# Altium footprint library Connector_PinHeader_1.00mm.PcbLib: 278 footprints (part 10 of 18)
Each footprint in its own frame and in the unit in brackets; x right, y up, seen from the top. Pads: shape width x height; smd on the part's side, far side on the other; paste and mask are expansions set on the pad; w line width, h text height; cw(c..) or ccw(c..) is an arc to the next point about the centre after c.
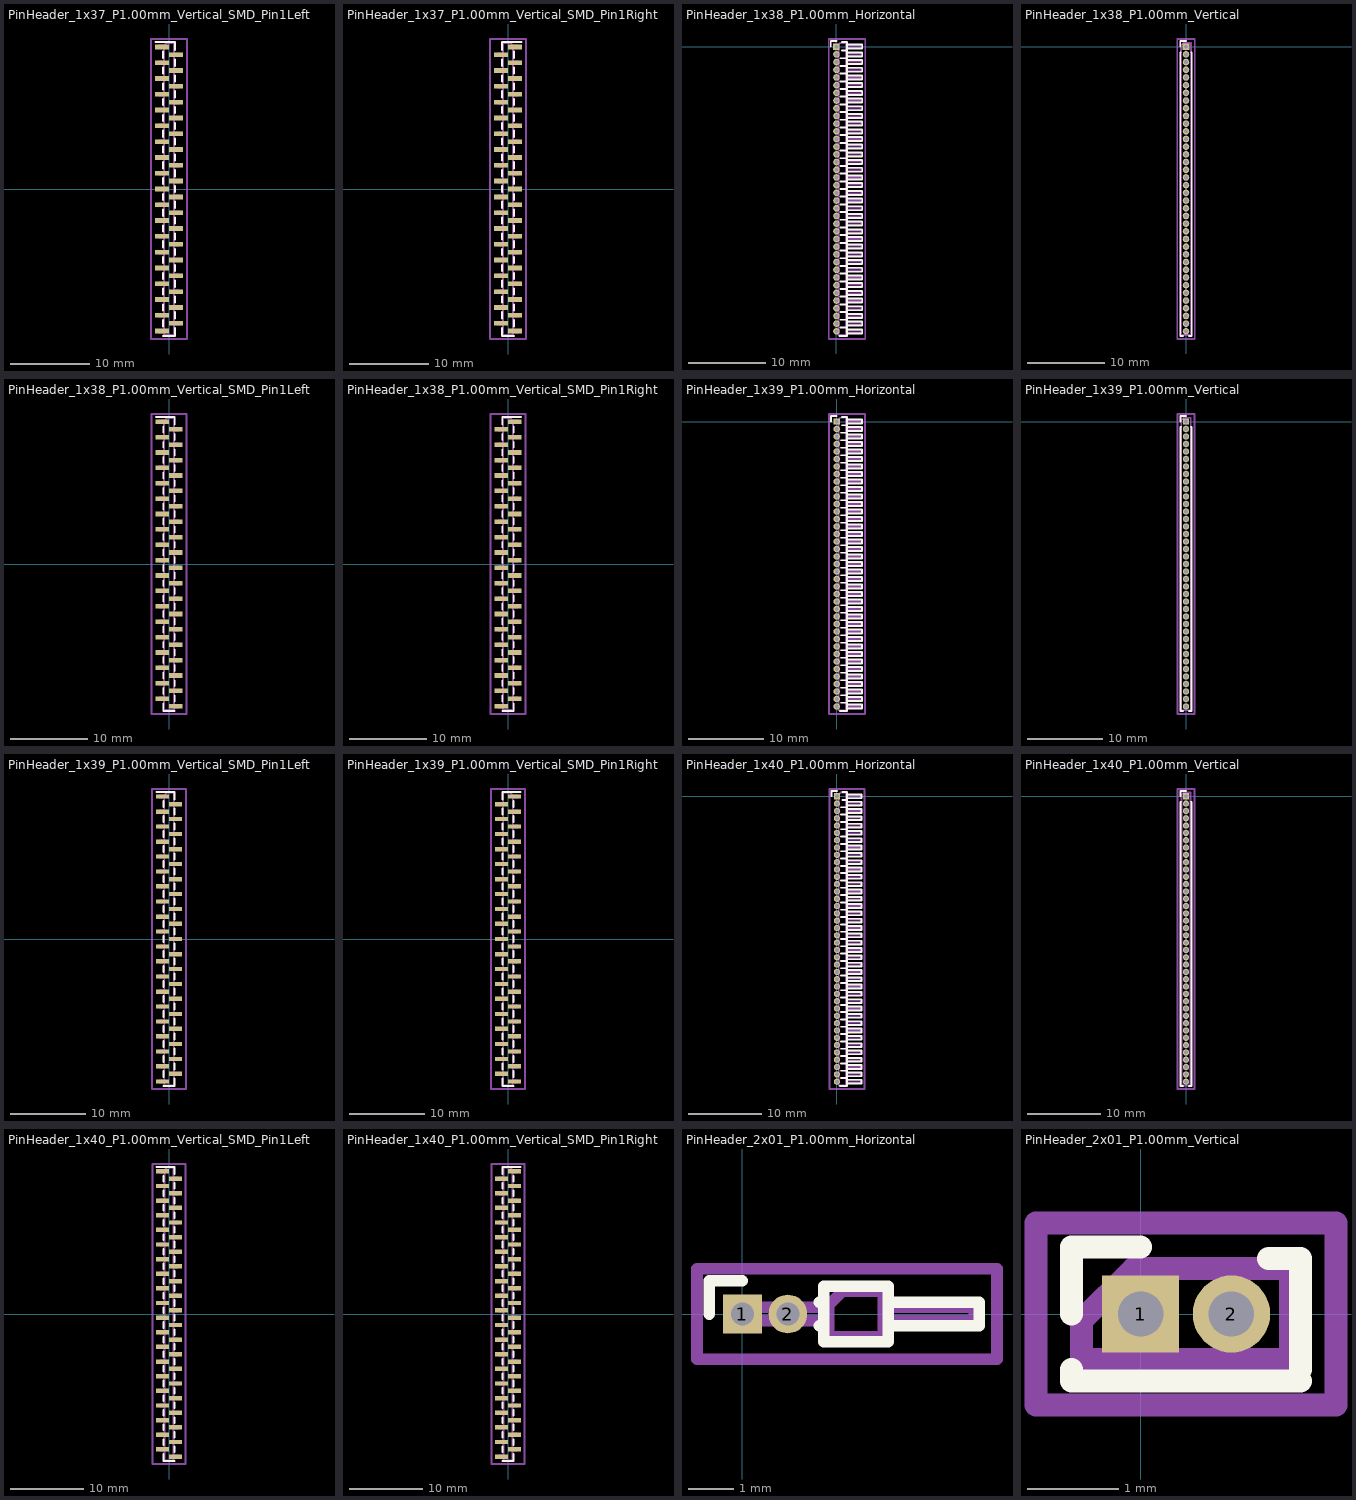
[diagram p9: the footprints below, top view; thin cyan lines are the x and y axes]

## PinHeader_1x37_P1.00mm_Vertical_SMD_Pin1Left [mm]
pads (37):
  rect 1.75x0.6 smd: 1(-0.875,18) 2(0.875,17) 3(-0.875,16) 4(0.875,15) 5(-0.875,14) 6(0.875,13) 7(-0.875,12) 8(0.875,11) 9(-0.875,10) 10(0.875,9) 11(-0.875,8) 12(0.875,7) 13(-0.875,6) 14(0.875,5) 15(-0.875,4) 16(0.875,3) 17(-0.875,2) 18(0.875,1) 19(-0.875,0) 20(0.875,-1) 21(-0.875,-2) 22(0.875,-3) 23(-0.875,-4) 24(0.875,-5) 25(-0.875,-6) 26(0.875,-7) 27(-0.875,-8) 28(0.875,-9) 29(-0.875,-10) 30(0.875,-11) 31(-0.875,-12) 32(0.875,-13) 33(-0.875,-14) 34(0.875,-15) 35(-0.875,-16) 36(0.875,-17) 37(-0.875,-18)
F.SilkS:
  lines w0.254: -1.69,18.61 -0.745,18.61 0.745,18.61 0.745,17.61 ; -0.745,-18.61 0.745,-18.61 0.745,-17.61 ; -0.745,-17.39 -0.745,-16.61 ; -0.745,-15.39 -0.745,-14.61 ; -0.745,-13.39 -0.745,-12.61 ; -0.745,-11.39 -0.745,-10.61 ; -0.745,-9.39 -0.745,-8.61 ; -0.745,-7.39 -0.745,-6.61 ; -0.745,-5.39 -0.745,-4.61 ; -0.745,-3.39 -0.745,-2.61 ; -0.745,-1.39 -0.745,-0.61 ; -0.745,0.61 -0.745,1.39 ; -0.745,2.61 -0.745,3.39 ; -0.745,4.61 -0.745,5.39 ; -0.745,6.61 -0.745,7.39 ; -0.745,8.61 -0.745,9.39 ; -0.745,10.61 -0.745,11.39 ; -0.745,12.61 -0.745,13.39 ; -0.745,14.61 -0.745,15.39 ; -0.745,16.61 -0.745,17.39 ; 0.745,-16.39 0.745,-15.61 ; 0.745,-14.39 0.745,-13.61 ; 0.745,-12.39 0.745,-11.61 ; 0.745,-10.39 0.745,-9.61 ; 0.745,-8.39 0.745,-7.61 ; 0.745,-6.39 0.745,-5.61 ; 0.745,-4.39 0.745,-3.61 ; 0.745,-2.39 0.745,-1.61 ; 0.745,-0.39 0.745,0.39 ; 0.745,1.61 0.745,2.39 ; 0.745,3.61 0.745,4.39 ; 0.745,5.61 0.745,6.39 ; 0.745,7.61 0.745,8.39 ; 0.745,9.61 0.745,10.39 ; 0.745,11.61 0.745,12.39 ; 0.745,13.61 0.745,14.39 ; 0.745,15.61 0.745,16.39
Top Assembly:
  lines w0.254: -0.635,-18.15 -1.25,-18.15 -1.25,-17.85 -0.635,-17.85 ; -0.635,-16.15 -1.25,-16.15 -1.25,-15.85 -0.635,-15.85 ; -0.635,-14.15 -1.25,-14.15 -1.25,-13.85 -0.635,-13.85 ; -0.635,-12.15 -1.25,-12.15 -1.25,-11.85 -0.635,-11.85 ; -0.635,-10.15 -1.25,-10.15 -1.25,-9.85 -0.635,-9.85 ; -0.635,-8.15 -1.25,-8.15 -1.25,-7.85 -0.635,-7.85 ; -0.635,-6.15 -1.25,-6.15 -1.25,-5.85 -0.635,-5.85 ; -0.635,-4.15 -1.25,-4.15 -1.25,-3.85 -0.635,-3.85 ; -0.635,-2.15 -1.25,-2.15 -1.25,-1.85 -0.635,-1.85 ; -0.635,-0.15 -1.25,-0.15 -1.25,0.15 -0.635,0.15 ; -0.635,1.85 -1.25,1.85 -1.25,2.15 -0.635,2.15 ; -0.635,3.85 -1.25,3.85 -1.25,4.15 -0.635,4.15 ; -0.635,5.85 -1.25,5.85 -1.25,6.15 -0.635,6.15 ; -0.635,7.85 -1.25,7.85 -1.25,8.15 -0.635,8.15 ; -0.635,9.85 -1.25,9.85 -1.25,10.15 -0.635,10.15 ; -0.635,11.85 -1.25,11.85 -1.25,12.15 -0.635,12.15 ; -0.635,13.85 -1.25,13.85 -1.25,14.15 -0.635,14.15 ; -0.635,15.85 -1.25,15.85 -1.25,16.15 -0.635,16.15 ; -0.635,17.85 -1.25,17.85 -1.25,18.15 -0.635,18.15 ; 0.635,-17.15 1.25,-17.15 1.25,-16.85 0.635,-16.85 ; 0.635,-15.15 1.25,-15.15 1.25,-14.85 0.635,-14.85 ; 0.635,-13.15 1.25,-13.15 1.25,-12.85 0.635,-12.85 ; 0.635,-11.15 1.25,-11.15 1.25,-10.85 0.635,-10.85 ; 0.635,-9.15 1.25,-9.15 1.25,-8.85 0.635,-8.85 ; 0.635,-7.15 1.25,-7.15 1.25,-6.85 0.635,-6.85 ; 0.635,-5.15 1.25,-5.15 1.25,-4.85 0.635,-4.85 ; 0.635,-3.15 1.25,-3.15 1.25,-2.85 0.635,-2.85 ; 0.635,-1.15 1.25,-1.15 1.25,-0.85 0.635,-0.85 ; 0.635,0.85 1.25,0.85 1.25,1.15 0.635,1.15 ; 0.635,2.85 1.25,2.85 1.25,3.15 0.635,3.15 ; 0.635,4.85 1.25,4.85 1.25,5.15 0.635,5.15 ; 0.635,6.85 1.25,6.85 1.25,7.15 0.635,7.15 ; 0.635,8.85 1.25,8.85 1.25,9.15 0.635,9.15 ; 0.635,10.85 1.25,10.85 1.25,11.15 0.635,11.15 ; 0.635,12.85 1.25,12.85 1.25,13.15 0.635,13.15 ; 0.635,14.85 1.25,14.85 1.25,15.15 0.635,15.15 ; 0.635,16.85 1.25,16.85 1.25,17.15 0.635,17.15 ; -0.635,18.15 -0.635,-18.5 0.635,-18.5 0.635,18.5 -0.285,18.5 -0.635,18.15
  text "'.Designator'" at 0.84,-4.047 h1
Top Courtyard:
  lines w0.254: -2.25,-19 2.25,-19 2.25,19 -2.25,19 -2.25,-19
Top Designator:
  text ".Designator" at -7.618,-0.508 h1.52

## PinHeader_1x37_P1.00mm_Vertical_SMD_Pin1Right [mm]
pads (37):
  rect 1.75x0.6 smd: 1(0.875,18) 2(-0.875,17) 3(0.875,16) 4(-0.875,15) 5(0.875,14) 6(-0.875,13) 7(0.875,12) 8(-0.875,11) 9(0.875,10) 10(-0.875,9) 11(0.875,8) 12(-0.875,7) 13(0.875,6) 14(-0.875,5) 15(0.875,4) 16(-0.875,3) 17(0.875,2) 18(-0.875,1) 19(0.875,0) 20(-0.875,-1) 21(0.875,-2) 22(-0.875,-3) 23(0.875,-4) 24(-0.875,-5) 25(0.875,-6) 26(-0.875,-7) 27(0.875,-8) 28(-0.875,-9) 29(0.875,-10) 30(-0.875,-11) 31(0.875,-12) 32(-0.875,-13) 33(0.875,-14) 34(-0.875,-15) 35(0.875,-16) 36(-0.875,-17) 37(0.875,-18)
F.SilkS:
  lines w0.254: -0.745,-17.61 -0.745,-18.61 0.745,-18.61 ; -0.745,-16.39 -0.745,-15.61 ; -0.745,-14.39 -0.745,-13.61 ; -0.745,-12.39 -0.745,-11.61 ; -0.745,-10.39 -0.745,-9.61 ; -0.745,-8.39 -0.745,-7.61 ; -0.745,-6.39 -0.745,-5.61 ; -0.745,-4.39 -0.745,-3.61 ; -0.745,-2.39 -0.745,-1.61 ; -0.745,-0.39 -0.745,0.39 ; -0.745,1.61 -0.745,2.39 ; -0.745,3.61 -0.745,4.39 ; -0.745,5.61 -0.745,6.39 ; -0.745,7.61 -0.745,8.39 ; -0.745,9.61 -0.745,10.39 ; -0.745,11.61 -0.745,12.39 ; -0.745,13.61 -0.745,14.39 ; -0.745,15.61 -0.745,16.39 ; -0.745,18.39 -0.745,17.61 -0.745,18.61 0.745,18.61 1.69,18.61 ; 0.745,-17.39 0.745,-16.61 ; 0.745,-15.39 0.745,-14.61 ; 0.745,-13.39 0.745,-12.61 ; 0.745,-11.39 0.745,-10.61 ; 0.745,-9.39 0.745,-8.61 ; 0.745,-7.39 0.745,-6.61 ; 0.745,-5.39 0.745,-4.61 ; 0.745,-3.39 0.745,-2.61 ; 0.745,-1.39 0.745,-0.61 ; 0.745,0.61 0.745,1.39 ; 0.745,2.61 0.745,3.39 ; 0.745,4.61 0.745,5.39 ; 0.745,6.61 0.745,7.39 ; 0.745,8.61 0.745,9.39 ; 0.745,10.61 0.745,11.39 ; 0.745,12.61 0.745,13.39 ; 0.745,14.61 0.745,15.39 ; 0.745,16.61 0.745,17.39
Top Assembly:
  lines w0.254: -0.635,-17.15 -1.25,-17.15 -1.25,-16.85 -0.635,-16.85 ; -0.635,-15.15 -1.25,-15.15 -1.25,-14.85 -0.635,-14.85 ; -0.635,-13.15 -1.25,-13.15 -1.25,-12.85 -0.635,-12.85 ; -0.635,-11.15 -1.25,-11.15 -1.25,-10.85 -0.635,-10.85 ; -0.635,-9.15 -1.25,-9.15 -1.25,-8.85 -0.635,-8.85 ; -0.635,-7.15 -1.25,-7.15 -1.25,-6.85 -0.635,-6.85 ; -0.635,-5.15 -1.25,-5.15 -1.25,-4.85 -0.635,-4.85 ; -0.635,-3.15 -1.25,-3.15 -1.25,-2.85 -0.635,-2.85 ; -0.635,-1.15 -1.25,-1.15 -1.25,-0.85 -0.635,-0.85 ; -0.635,0.85 -1.25,0.85 -1.25,1.15 -0.635,1.15 ; -0.635,2.85 -1.25,2.85 -1.25,3.15 -0.635,3.15 ; -0.635,4.85 -1.25,4.85 -1.25,5.15 -0.635,5.15 ; -0.635,6.85 -1.25,6.85 -1.25,7.15 -0.635,7.15 ; -0.635,8.85 -1.25,8.85 -1.25,9.15 -0.635,9.15 ; -0.635,10.85 -1.25,10.85 -1.25,11.15 -0.635,11.15 ; -0.635,12.85 -1.25,12.85 -1.25,13.15 -0.635,13.15 ; -0.635,14.85 -1.25,14.85 -1.25,15.15 -0.635,15.15 ; -0.635,16.85 -1.25,16.85 -1.25,17.15 -0.635,17.15 ; 0.635,-18.15 1.25,-18.15 1.25,-17.85 0.635,-17.85 ; 0.635,-16.15 1.25,-16.15 1.25,-15.85 0.635,-15.85 ; 0.635,-14.15 1.25,-14.15 1.25,-13.85 0.635,-13.85 ; 0.635,-12.15 1.25,-12.15 1.25,-11.85 0.635,-11.85 ; 0.635,-10.15 1.25,-10.15 1.25,-9.85 0.635,-9.85 ; 0.635,-8.15 1.25,-8.15 1.25,-7.85 0.635,-7.85 ; 0.635,-6.15 1.25,-6.15 1.25,-5.85 0.635,-5.85 ; 0.635,-4.15 1.25,-4.15 1.25,-3.85 0.635,-3.85 ; 0.635,-2.15 1.25,-2.15 1.25,-1.85 0.635,-1.85 ; 0.635,-0.15 1.25,-0.15 1.25,0.15 0.635,0.15 ; 0.635,1.85 1.25,1.85 1.25,2.15 0.635,2.15 ; 0.635,3.85 1.25,3.85 1.25,4.15 0.635,4.15 ; 0.635,5.85 1.25,5.85 1.25,6.15 0.635,6.15 ; 0.635,7.85 1.25,7.85 1.25,8.15 0.635,8.15 ; 0.635,9.85 1.25,9.85 1.25,10.15 0.635,10.15 ; 0.635,11.85 1.25,11.85 1.25,12.15 0.635,12.15 ; 0.635,13.85 1.25,13.85 1.25,14.15 0.635,14.15 ; 0.635,15.85 1.25,15.85 1.25,16.15 0.635,16.15 ; 0.635,17.85 1.25,17.85 1.25,18.15 0.635,18.15 ; 0.635,18.15 0.635,-18.5 -0.635,-18.5 -0.635,18.5 0.285,18.5 0.635,18.15
  text "'.Designator'" at 0.84,-4.047 h1
Top Courtyard:
  lines w0.254: -2.25,-19 2.25,-19 2.25,19 -2.25,19 -2.25,-19
Top Designator:
  text ".Designator" at -7.618,-0.508 h1.52

## PinHeader_1x38_P1.00mm_Horizontal [mm]
pads (38):
  rect 0.85x0.85 hole 0.5: 1(0,0)
  round 0.85 hole 0.5: 2(0,-1) 3(0,-2) 4(0,-3) 5(0,-4) 6(0,-5) 7(0,-6) 8(0,-7) 9(0,-8) 10(0,-9) 11(0,-10) 12(0,-11) 13(0,-12) 14(0,-13) 15(0,-14) 16(0,-15) 17(0,-16) 18(0,-17) 19(0,-18) 20(0,-19) 21(0,-20) 22(0,-21) 23(0,-22) 24(0,-23) 25(0,-24) 26(0,-25) 27(0,-26) 28(0,-27) 29(0,-28) 30(0,-29) 31(0,-30) 32(0,-31) 33(0,-32) 34(0,-33) 35(0,-34) 36(0,-35) 37(0,-36) 38(0,-37)
F.SilkS:
  drawing of 157 lines, arcs and shapes, not listed
Top Assembly:
  drawing of 233 lines, arcs and shapes, not listed
  text "'.Designator'" at 1.254,-20.928 h0.6
Top Courtyard:
  lines w0.254: -1,-38 3.75,-38 3.75,1 -1,1 -1,-38
Top Designator:
  text ".Designator" at -6.243,-19.008 h1.52

## PinHeader_1x38_P1.00mm_Vertical [mm]
pads (38):
  rect 0.85x0.85 hole 0.5: 1(0,0)
  round 0.85 hole 0.5: 2(0,-1) 3(0,-2) 4(0,-3) 5(0,-4) 6(0,-5) 7(0,-6) 8(0,-7) 9(0,-8) 10(0,-9) 11(0,-10) 12(0,-11) 13(0,-12) 14(0,-13) 15(0,-14) 16(0,-15) 17(0,-16) 18(0,-17) 19(0,-18) 20(0,-19) 21(0,-20) 22(0,-21) 23(0,-22) 24(0,-23) 25(0,-24) 26(0,-25) 27(0,-26) 28(0,-27) 29(0,-28) 30(0,-29) 31(0,-30) 32(0,-31) 33(0,-32) 34(0,-33) 35(0,-34) 36(0,-35) 37(0,-36) 38(0,-37)
F.SilkS:
  lines w0.254: -0.745,0 -0.745,0.735 0,0.735 ; -0.686,-0.735 -0.745,-0.735 -0.745,-37.61 -0.41,-37.61 ; 0.41,-37.61 0.745,-37.61 0.745,-0.735 0.686,-0.735
Top Assembly:
  lines w0.254: -0.635,-37.5 0.635,-37.5 0.635,0.5 -0.318,0.5 -0.635,0.182 -0.635,-37.5
  text "'.Designator'" at 0.639,-21.576 h0.76
Top Courtyard:
  lines w0.254: -1.14,-38 1.14,-38 1.14,1 -1.14,1 -1.14,-38
Top Designator:
  text ".Designator" at -7.618,-19.008 h1.52

## PinHeader_1x38_P1.00mm_Vertical_SMD_Pin1Left [mm]
pads (38):
  rect 1.75x0.6 smd: 1(-0.875,18.5) 2(0.875,17.5) 3(-0.875,16.5) 4(0.875,15.5) 5(-0.875,14.5) 6(0.875,13.5) 7(-0.875,12.5) 8(0.875,11.5) 9(-0.875,10.5) 10(0.875,9.5) 11(-0.875,8.5) 12(0.875,7.5) 13(-0.875,6.5) 14(0.875,5.5) 15(-0.875,4.5) 16(0.875,3.5) 17(-0.875,2.5) 18(0.875,1.5) 19(-0.875,0.5) 20(0.875,-0.5) 21(-0.875,-1.5) 22(0.875,-2.5) 23(-0.875,-3.5) 24(0.875,-4.5) 25(-0.875,-5.5) 26(0.875,-6.5) 27(-0.875,-7.5) 28(0.875,-8.5) 29(-0.875,-9.5) 30(0.875,-10.5) 31(-0.875,-11.5) 32(0.875,-12.5) 33(-0.875,-13.5) 34(0.875,-14.5) 35(-0.875,-15.5) 36(0.875,-16.5) 37(-0.875,-17.5) 38(0.875,-18.5)
F.SilkS:
  lines w0.254: -1.69,19.11 -0.745,19.11 0.745,19.11 0.745,18.11 ; -0.745,-18.11 -0.745,-19.11 0.745,-19.11 ; -0.745,-16.89 -0.745,-16.11 ; -0.745,-14.89 -0.745,-14.11 ; -0.745,-12.89 -0.745,-12.11 ; -0.745,-10.89 -0.745,-10.11 ; -0.745,-8.89 -0.745,-8.11 ; -0.745,-6.89 -0.745,-6.11 ; -0.745,-4.89 -0.745,-4.11 ; -0.745,-2.89 -0.745,-2.11 ; -0.745,-0.89 -0.745,-0.11 ; -0.745,1.11 -0.745,1.89 ; -0.745,3.11 -0.745,3.89 ; -0.745,5.11 -0.745,5.89 ; -0.745,7.11 -0.745,7.89 ; -0.745,9.11 -0.745,9.89 ; -0.745,11.11 -0.745,11.89 ; -0.745,13.11 -0.745,13.89 ; -0.745,15.11 -0.745,15.89 ; -0.745,17.11 -0.745,17.89 ; 0.745,-17.89 0.745,-17.11 ; 0.745,-15.89 0.745,-15.11 ; 0.745,-13.89 0.745,-13.11 ; 0.745,-11.89 0.745,-11.11 ; 0.745,-9.89 0.745,-9.11 ; 0.745,-7.89 0.745,-7.11 ; 0.745,-5.89 0.745,-5.11 ; 0.745,-3.89 0.745,-3.11 ; 0.745,-1.89 0.745,-1.11 ; 0.745,0.11 0.745,0.89 ; 0.745,2.11 0.745,2.89 ; 0.745,4.11 0.745,4.89 ; 0.745,6.11 0.745,6.89 ; 0.745,8.11 0.745,8.89 ; 0.745,10.11 0.745,10.89 ; 0.745,12.11 0.745,12.89 ; 0.745,14.11 0.745,14.89 ; 0.745,16.11 0.745,16.89
Top Assembly:
  lines w0.254: -0.635,-17.65 -1.25,-17.65 -1.25,-17.35 -0.635,-17.35 ; -0.635,-15.65 -1.25,-15.65 -1.25,-15.35 -0.635,-15.35 ; -0.635,-13.65 -1.25,-13.65 -1.25,-13.35 -0.635,-13.35 ; -0.635,-11.65 -1.25,-11.65 -1.25,-11.35 -0.635,-11.35 ; -0.635,-9.65 -1.25,-9.65 -1.25,-9.35 -0.635,-9.35 ; -0.635,-7.65 -1.25,-7.65 -1.25,-7.35 -0.635,-7.35 ; -0.635,-5.65 -1.25,-5.65 -1.25,-5.35 -0.635,-5.35 ; -0.635,-3.65 -1.25,-3.65 -1.25,-3.35 -0.635,-3.35 ; -0.635,-1.65 -1.25,-1.65 -1.25,-1.35 -0.635,-1.35 ; -0.635,0.35 -1.25,0.35 -1.25,0.65 -0.635,0.65 ; -0.635,2.35 -1.25,2.35 -1.25,2.65 -0.635,2.65 ; -0.635,4.35 -1.25,4.35 -1.25,4.65 -0.635,4.65 ; -0.635,6.35 -1.25,6.35 -1.25,6.65 -0.635,6.65 ; -0.635,8.35 -1.25,8.35 -1.25,8.65 -0.635,8.65 ; -0.635,10.35 -1.25,10.35 -1.25,10.65 -0.635,10.65 ; -0.635,12.35 -1.25,12.35 -1.25,12.65 -0.635,12.65 ; -0.635,14.35 -1.25,14.35 -1.25,14.65 -0.635,14.65 ; -0.635,16.35 -1.25,16.35 -1.25,16.65 -0.635,16.65 ; -0.635,18.35 -1.25,18.35 -1.25,18.65 -0.635,18.65 ; 0.635,-18.65 1.25,-18.65 1.25,-18.35 0.635,-18.35 ; 0.635,-16.65 1.25,-16.65 1.25,-16.35 0.635,-16.35 ; 0.635,-14.65 1.25,-14.65 1.25,-14.35 0.635,-14.35 ; 0.635,-12.65 1.25,-12.65 1.25,-12.35 0.635,-12.35 ; 0.635,-10.65 1.25,-10.65 1.25,-10.35 0.635,-10.35 ; 0.635,-8.65 1.25,-8.65 1.25,-8.35 0.635,-8.35 ; 0.635,-6.65 1.25,-6.65 1.25,-6.35 0.635,-6.35 ; 0.635,-4.65 1.25,-4.65 1.25,-4.35 0.635,-4.35 ; 0.635,-2.65 1.25,-2.65 1.25,-2.35 0.635,-2.35 ; 0.635,-0.65 1.25,-0.65 1.25,-0.35 0.635,-0.35 ; 0.635,1.35 1.25,1.35 1.25,1.65 0.635,1.65 ; 0.635,3.35 1.25,3.35 1.25,3.65 0.635,3.65 ; 0.635,5.35 1.25,5.35 1.25,5.65 0.635,5.65 ; 0.635,7.35 1.25,7.35 1.25,7.65 0.635,7.65 ; 0.635,9.35 1.25,9.35 1.25,9.65 0.635,9.65 ; 0.635,11.35 1.25,11.35 1.25,11.65 0.635,11.65 ; 0.635,13.35 1.25,13.35 1.25,13.65 0.635,13.65 ; 0.635,15.35 1.25,15.35 1.25,15.65 0.635,15.65 ; 0.635,17.35 1.25,17.35 1.25,17.65 0.635,17.65 ; -0.635,18.65 -0.635,-19 0.635,-19 0.635,19 -0.285,19 -0.635,18.65
  text "'.Designator'" at 0.84,-4.047 h1
Top Courtyard:
  lines w0.254: -2.25,-19.5 2.25,-19.5 2.25,19.5 -2.25,19.5 -2.25,-19.5
Top Designator:
  text ".Designator" at -7.618,-0.508 h1.52

## PinHeader_1x38_P1.00mm_Vertical_SMD_Pin1Right [mm]
pads (38):
  rect 1.75x0.6 smd: 1(0.875,18.5) 2(-0.875,17.5) 3(0.875,16.5) 4(-0.875,15.5) 5(0.875,14.5) 6(-0.875,13.5) 7(0.875,12.5) 8(-0.875,11.5) 9(0.875,10.5) 10(-0.875,9.5) 11(0.875,8.5) 12(-0.875,7.5) 13(0.875,6.5) 14(-0.875,5.5) 15(0.875,4.5) 16(-0.875,3.5) 17(0.875,2.5) 18(-0.875,1.5) 19(0.875,0.5) 20(-0.875,-0.5) 21(0.875,-1.5) 22(-0.875,-2.5) 23(0.875,-3.5) 24(-0.875,-4.5) 25(0.875,-5.5) 26(-0.875,-6.5) 27(0.875,-7.5) 28(-0.875,-8.5) 29(0.875,-9.5) 30(-0.875,-10.5) 31(0.875,-11.5) 32(-0.875,-12.5) 33(0.875,-13.5) 34(-0.875,-14.5) 35(0.875,-15.5) 36(-0.875,-16.5) 37(0.875,-17.5) 38(-0.875,-18.5)
F.SilkS:
  lines w0.254: -0.745,-19.11 0.745,-19.11 0.745,-18.11 ; -0.745,-17.89 -0.745,-17.11 ; -0.745,-15.89 -0.745,-15.11 ; -0.745,-13.89 -0.745,-13.11 ; -0.745,-11.89 -0.745,-11.11 ; -0.745,-9.89 -0.745,-9.11 ; -0.745,-7.89 -0.745,-7.11 ; -0.745,-5.89 -0.745,-5.11 ; -0.745,-3.89 -0.745,-3.11 ; -0.745,-1.89 -0.745,-1.11 ; -0.745,0.11 -0.745,0.89 ; -0.745,2.11 -0.745,2.89 ; -0.745,4.11 -0.745,4.89 ; -0.745,6.11 -0.745,6.89 ; -0.745,8.11 -0.745,8.89 ; -0.745,10.11 -0.745,10.89 ; -0.745,12.11 -0.745,12.89 ; -0.745,14.11 -0.745,14.89 ; -0.745,16.11 -0.745,16.89 ; -0.745,18.89 -0.745,18.11 -0.745,19.11 0.745,19.11 1.69,19.11 ; 0.745,-16.89 0.745,-16.11 ; 0.745,-14.89 0.745,-14.11 ; 0.745,-12.89 0.745,-12.11 ; 0.745,-10.89 0.745,-10.11 ; 0.745,-8.89 0.745,-8.11 ; 0.745,-6.89 0.745,-6.11 ; 0.745,-4.89 0.745,-4.11 ; 0.745,-2.89 0.745,-2.11 ; 0.745,-0.89 0.745,-0.11 ; 0.745,1.11 0.745,1.89 ; 0.745,3.11 0.745,3.89 ; 0.745,5.11 0.745,5.89 ; 0.745,7.11 0.745,7.89 ; 0.745,9.11 0.745,9.89 ; 0.745,11.11 0.745,11.89 ; 0.745,13.11 0.745,13.89 ; 0.745,15.11 0.745,15.89 ; 0.745,17.11 0.745,17.89
Top Assembly:
  lines w0.254: -0.635,-18.65 -1.25,-18.65 -1.25,-18.35 -0.635,-18.35 ; -0.635,-16.65 -1.25,-16.65 -1.25,-16.35 -0.635,-16.35 ; -0.635,-14.65 -1.25,-14.65 -1.25,-14.35 -0.635,-14.35 ; -0.635,-12.65 -1.25,-12.65 -1.25,-12.35 -0.635,-12.35 ; -0.635,-10.65 -1.25,-10.65 -1.25,-10.35 -0.635,-10.35 ; -0.635,-8.65 -1.25,-8.65 -1.25,-8.35 -0.635,-8.35 ; -0.635,-6.65 -1.25,-6.65 -1.25,-6.35 -0.635,-6.35 ; -0.635,-4.65 -1.25,-4.65 -1.25,-4.35 -0.635,-4.35 ; -0.635,-2.65 -1.25,-2.65 -1.25,-2.35 -0.635,-2.35 ; -0.635,-0.65 -1.25,-0.65 -1.25,-0.35 -0.635,-0.35 ; -0.635,1.35 -1.25,1.35 -1.25,1.65 -0.635,1.65 ; -0.635,3.35 -1.25,3.35 -1.25,3.65 -0.635,3.65 ; -0.635,5.35 -1.25,5.35 -1.25,5.65 -0.635,5.65 ; -0.635,7.35 -1.25,7.35 -1.25,7.65 -0.635,7.65 ; -0.635,9.35 -1.25,9.35 -1.25,9.65 -0.635,9.65 ; -0.635,11.35 -1.25,11.35 -1.25,11.65 -0.635,11.65 ; -0.635,13.35 -1.25,13.35 -1.25,13.65 -0.635,13.65 ; -0.635,15.35 -1.25,15.35 -1.25,15.65 -0.635,15.65 ; -0.635,17.35 -1.25,17.35 -1.25,17.65 -0.635,17.65 ; 0.635,-17.65 1.25,-17.65 1.25,-17.35 0.635,-17.35 ; 0.635,-15.65 1.25,-15.65 1.25,-15.35 0.635,-15.35 ; 0.635,-13.65 1.25,-13.65 1.25,-13.35 0.635,-13.35 ; 0.635,-11.65 1.25,-11.65 1.25,-11.35 0.635,-11.35 ; 0.635,-9.65 1.25,-9.65 1.25,-9.35 0.635,-9.35 ; 0.635,-7.65 1.25,-7.65 1.25,-7.35 0.635,-7.35 ; 0.635,-5.65 1.25,-5.65 1.25,-5.35 0.635,-5.35 ; 0.635,-3.65 1.25,-3.65 1.25,-3.35 0.635,-3.35 ; 0.635,-1.65 1.25,-1.65 1.25,-1.35 0.635,-1.35 ; 0.635,0.35 1.25,0.35 1.25,0.65 0.635,0.65 ; 0.635,2.35 1.25,2.35 1.25,2.65 0.635,2.65 ; 0.635,4.35 1.25,4.35 1.25,4.65 0.635,4.65 ; 0.635,6.35 1.25,6.35 1.25,6.65 0.635,6.65 ; 0.635,8.35 1.25,8.35 1.25,8.65 0.635,8.65 ; 0.635,10.35 1.25,10.35 1.25,10.65 0.635,10.65 ; 0.635,12.35 1.25,12.35 1.25,12.65 0.635,12.65 ; 0.635,14.35 1.25,14.35 1.25,14.65 0.635,14.65 ; 0.635,16.35 1.25,16.35 1.25,16.65 0.635,16.65 ; 0.635,18.35 1.25,18.35 1.25,18.65 0.635,18.65 ; 0.635,18.65 0.635,-19 -0.635,-19 -0.635,19 0.285,19 0.635,18.65
  text "'.Designator'" at 0.84,-4.047 h1
Top Courtyard:
  lines w0.254: -2.25,-19.5 2.25,-19.5 2.25,19.5 -2.25,19.5 -2.25,-19.5
Top Designator:
  text ".Designator" at -7.618,-0.508 h1.52

## PinHeader_1x39_P1.00mm_Horizontal [mm]
pads (39):
  rect 0.85x0.85 hole 0.5: 1(0,0)
  round 0.85 hole 0.5: 2(0,-1) 3(0,-2) 4(0,-3) 5(0,-4) 6(0,-5) 7(0,-6) 8(0,-7) 9(0,-8) 10(0,-9) 11(0,-10) 12(0,-11) 13(0,-12) 14(0,-13) 15(0,-14) 16(0,-15) 17(0,-16) 18(0,-17) 19(0,-18) 20(0,-19) 21(0,-20) 22(0,-21) 23(0,-22) 24(0,-23) 25(0,-24) 26(0,-25) 27(0,-26) 28(0,-27) 29(0,-28) 30(0,-29) 31(0,-30) 32(0,-31) 33(0,-32) 34(0,-33) 35(0,-34) 36(0,-35) 37(0,-36) 38(0,-37) 39(0,-38)
F.SilkS:
  drawing of 161 lines, arcs and shapes, not listed
Top Assembly:
  drawing of 239 lines, arcs and shapes, not listed
  text "'.Designator'" at 1.254,-21.428 h0.6
Top Courtyard:
  lines w0.254: -1,-39 3.75,-39 3.75,1 -1,1 -1,-39
Top Designator:
  text ".Designator" at -6.243,-19.508 h1.52

## PinHeader_1x39_P1.00mm_Vertical [mm]
pads (39):
  rect 0.85x0.85 hole 0.5: 1(0,0)
  round 0.85 hole 0.5: 2(0,-1) 3(0,-2) 4(0,-3) 5(0,-4) 6(0,-5) 7(0,-6) 8(0,-7) 9(0,-8) 10(0,-9) 11(0,-10) 12(0,-11) 13(0,-12) 14(0,-13) 15(0,-14) 16(0,-15) 17(0,-16) 18(0,-17) 19(0,-18) 20(0,-19) 21(0,-20) 22(0,-21) 23(0,-22) 24(0,-23) 25(0,-24) 26(0,-25) 27(0,-26) 28(0,-27) 29(0,-28) 30(0,-29) 31(0,-30) 32(0,-31) 33(0,-32) 34(0,-33) 35(0,-34) 36(0,-35) 37(0,-36) 38(0,-37) 39(0,-38)
F.SilkS:
  lines w0.254: -0.745,0 -0.745,0.735 0,0.735 ; -0.686,-0.735 -0.745,-0.735 -0.745,-38.61 -0.41,-38.61 ; 0.41,-38.61 0.745,-38.61 0.745,-0.735 0.686,-0.735
Top Assembly:
  lines w0.254: -0.635,-38.5 0.635,-38.5 0.635,0.5 -0.318,0.5 -0.635,0.182 -0.635,-38.5
  text "'.Designator'" at 0.639,-22.076 h0.76
Top Courtyard:
  lines w0.254: -1.14,-39 1.14,-39 1.14,1 -1.14,1 -1.14,-39
Top Designator:
  text ".Designator" at -7.618,-19.508 h1.52

## PinHeader_1x39_P1.00mm_Vertical_SMD_Pin1Left [mm]
pads (39):
  rect 1.75x0.6 smd: 1(-0.875,19) 2(0.875,18) 3(-0.875,17) 4(0.875,16) 5(-0.875,15) 6(0.875,14) 7(-0.875,13) 8(0.875,12) 9(-0.875,11) 10(0.875,10) 11(-0.875,9) 12(0.875,8) 13(-0.875,7) 14(0.875,6) 15(-0.875,5) 16(0.875,4) 17(-0.875,3) 18(0.875,2) 19(-0.875,1) 20(0.875,0) 21(-0.875,-1) 22(0.875,-2) 23(-0.875,-3) 24(0.875,-4) 25(-0.875,-5) 26(0.875,-6) 27(-0.875,-7) 28(0.875,-8) 29(-0.875,-9) 30(0.875,-10) 31(-0.875,-11) 32(0.875,-12) 33(-0.875,-13) 34(0.875,-14) 35(-0.875,-15) 36(0.875,-16) 37(-0.875,-17) 38(0.875,-18) 39(-0.875,-19)
F.SilkS:
  lines w0.254: -1.69,19.61 -0.745,19.61 0.745,19.61 0.745,18.61 ; -0.745,-19.61 0.745,-19.61 0.745,-18.61 ; -0.745,-18.39 -0.745,-17.61 ; -0.745,-16.39 -0.745,-15.61 ; -0.745,-14.39 -0.745,-13.61 ; -0.745,-12.39 -0.745,-11.61 ; -0.745,-10.39 -0.745,-9.61 ; -0.745,-8.39 -0.745,-7.61 ; -0.745,-6.39 -0.745,-5.61 ; -0.745,-4.39 -0.745,-3.61 ; -0.745,-2.39 -0.745,-1.61 ; -0.745,-0.39 -0.745,0.39 ; -0.745,1.61 -0.745,2.39 ; -0.745,3.61 -0.745,4.39 ; -0.745,5.61 -0.745,6.39 ; -0.745,7.61 -0.745,8.39 ; -0.745,9.61 -0.745,10.39 ; -0.745,11.61 -0.745,12.39 ; -0.745,13.61 -0.745,14.39 ; -0.745,15.61 -0.745,16.39 ; -0.745,17.61 -0.745,18.39 ; 0.745,-17.39 0.745,-16.61 ; 0.745,-15.39 0.745,-14.61 ; 0.745,-13.39 0.745,-12.61 ; 0.745,-11.39 0.745,-10.61 ; 0.745,-9.39 0.745,-8.61 ; 0.745,-7.39 0.745,-6.61 ; 0.745,-5.39 0.745,-4.61 ; 0.745,-3.39 0.745,-2.61 ; 0.745,-1.39 0.745,-0.61 ; 0.745,0.61 0.745,1.39 ; 0.745,2.61 0.745,3.39 ; 0.745,4.61 0.745,5.39 ; 0.745,6.61 0.745,7.39 ; 0.745,8.61 0.745,9.39 ; 0.745,10.61 0.745,11.39 ; 0.745,12.61 0.745,13.39 ; 0.745,14.61 0.745,15.39 ; 0.745,16.61 0.745,17.39
Top Assembly:
  lines w0.254: -0.635,-19.15 -1.25,-19.15 -1.25,-18.85 -0.635,-18.85 ; -0.635,-17.15 -1.25,-17.15 -1.25,-16.85 -0.635,-16.85 ; -0.635,-15.15 -1.25,-15.15 -1.25,-14.85 -0.635,-14.85 ; -0.635,-13.15 -1.25,-13.15 -1.25,-12.85 -0.635,-12.85 ; -0.635,-11.15 -1.25,-11.15 -1.25,-10.85 -0.635,-10.85 ; -0.635,-9.15 -1.25,-9.15 -1.25,-8.85 -0.635,-8.85 ; -0.635,-7.15 -1.25,-7.15 -1.25,-6.85 -0.635,-6.85 ; -0.635,-5.15 -1.25,-5.15 -1.25,-4.85 -0.635,-4.85 ; -0.635,-3.15 -1.25,-3.15 -1.25,-2.85 -0.635,-2.85 ; -0.635,-1.15 -1.25,-1.15 -1.25,-0.85 -0.635,-0.85 ; -0.635,0.85 -1.25,0.85 -1.25,1.15 -0.635,1.15 ; -0.635,2.85 -1.25,2.85 -1.25,3.15 -0.635,3.15 ; -0.635,4.85 -1.25,4.85 -1.25,5.15 -0.635,5.15 ; -0.635,6.85 -1.25,6.85 -1.25,7.15 -0.635,7.15 ; -0.635,8.85 -1.25,8.85 -1.25,9.15 -0.635,9.15 ; -0.635,10.85 -1.25,10.85 -1.25,11.15 -0.635,11.15 ; -0.635,12.85 -1.25,12.85 -1.25,13.15 -0.635,13.15 ; -0.635,14.85 -1.25,14.85 -1.25,15.15 -0.635,15.15 ; -0.635,16.85 -1.25,16.85 -1.25,17.15 -0.635,17.15 ; -0.635,18.85 -1.25,18.85 -1.25,19.15 -0.635,19.15 ; 0.635,-18.15 1.25,-18.15 1.25,-17.85 0.635,-17.85 ; 0.635,-16.15 1.25,-16.15 1.25,-15.85 0.635,-15.85 ; 0.635,-14.15 1.25,-14.15 1.25,-13.85 0.635,-13.85 ; 0.635,-12.15 1.25,-12.15 1.25,-11.85 0.635,-11.85 ; 0.635,-10.15 1.25,-10.15 1.25,-9.85 0.635,-9.85 ; 0.635,-8.15 1.25,-8.15 1.25,-7.85 0.635,-7.85 ; 0.635,-6.15 1.25,-6.15 1.25,-5.85 0.635,-5.85 ; 0.635,-4.15 1.25,-4.15 1.25,-3.85 0.635,-3.85 ; 0.635,-2.15 1.25,-2.15 1.25,-1.85 0.635,-1.85 ; 0.635,-0.15 1.25,-0.15 1.25,0.15 0.635,0.15 ; 0.635,1.85 1.25,1.85 1.25,2.15 0.635,2.15 ; 0.635,3.85 1.25,3.85 1.25,4.15 0.635,4.15 ; 0.635,5.85 1.25,5.85 1.25,6.15 0.635,6.15 ; 0.635,7.85 1.25,7.85 1.25,8.15 0.635,8.15 ; 0.635,9.85 1.25,9.85 1.25,10.15 0.635,10.15 ; 0.635,11.85 1.25,11.85 1.25,12.15 0.635,12.15 ; 0.635,13.85 1.25,13.85 1.25,14.15 0.635,14.15 ; 0.635,15.85 1.25,15.85 1.25,16.15 0.635,16.15 ; 0.635,17.85 1.25,17.85 1.25,18.15 0.635,18.15 ; -0.635,19.15 -0.635,-19.5 0.635,-19.5 0.635,19.5 -0.285,19.5 -0.635,19.15
  text "'.Designator'" at 0.84,-4.047 h1
Top Courtyard:
  lines w0.254: -2.25,-20 2.25,-20 2.25,20 -2.25,20 -2.25,-20
Top Designator:
  text ".Designator" at -7.618,-0.508 h1.52

## PinHeader_1x39_P1.00mm_Vertical_SMD_Pin1Right [mm]
pads (39):
  rect 1.75x0.6 smd: 1(0.875,19) 2(-0.875,18) 3(0.875,17) 4(-0.875,16) 5(0.875,15) 6(-0.875,14) 7(0.875,13) 8(-0.875,12) 9(0.875,11) 10(-0.875,10) 11(0.875,9) 12(-0.875,8) 13(0.875,7) 14(-0.875,6) 15(0.875,5) 16(-0.875,4) 17(0.875,3) 18(-0.875,2) 19(0.875,1) 20(-0.875,0) 21(0.875,-1) 22(-0.875,-2) 23(0.875,-3) 24(-0.875,-4) 25(0.875,-5) 26(-0.875,-6) 27(0.875,-7) 28(-0.875,-8) 29(0.875,-9) 30(-0.875,-10) 31(0.875,-11) 32(-0.875,-12) 33(0.875,-13) 34(-0.875,-14) 35(0.875,-15) 36(-0.875,-16) 37(0.875,-17) 38(-0.875,-18) 39(0.875,-19)
F.SilkS:
  lines w0.254: -0.745,-18.61 -0.745,-19.61 0.745,-19.61 ; -0.745,-17.39 -0.745,-16.61 ; -0.745,-15.39 -0.745,-14.61 ; -0.745,-13.39 -0.745,-12.61 ; -0.745,-11.39 -0.745,-10.61 ; -0.745,-9.39 -0.745,-8.61 ; -0.745,-7.39 -0.745,-6.61 ; -0.745,-5.39 -0.745,-4.61 ; -0.745,-3.39 -0.745,-2.61 ; -0.745,-1.39 -0.745,-0.61 ; -0.745,0.61 -0.745,1.39 ; -0.745,2.61 -0.745,3.39 ; -0.745,4.61 -0.745,5.39 ; -0.745,6.61 -0.745,7.39 ; -0.745,8.61 -0.745,9.39 ; -0.745,10.61 -0.745,11.39 ; -0.745,12.61 -0.745,13.39 ; -0.745,14.61 -0.745,15.39 ; -0.745,16.61 -0.745,17.39 ; -0.745,19.39 -0.745,18.61 -0.745,19.61 0.745,19.61 1.69,19.61 ; 0.745,-18.39 0.745,-17.61 ; 0.745,-16.39 0.745,-15.61 ; 0.745,-14.39 0.745,-13.61 ; 0.745,-12.39 0.745,-11.61 ; 0.745,-10.39 0.745,-9.61 ; 0.745,-8.39 0.745,-7.61 ; 0.745,-6.39 0.745,-5.61 ; 0.745,-4.39 0.745,-3.61 ; 0.745,-2.39 0.745,-1.61 ; 0.745,-0.39 0.745,0.39 ; 0.745,1.61 0.745,2.39 ; 0.745,3.61 0.745,4.39 ; 0.745,5.61 0.745,6.39 ; 0.745,7.61 0.745,8.39 ; 0.745,9.61 0.745,10.39 ; 0.745,11.61 0.745,12.39 ; 0.745,13.61 0.745,14.39 ; 0.745,15.61 0.745,16.39 ; 0.745,17.61 0.745,18.39
Top Assembly:
  lines w0.254: -0.635,-18.15 -1.25,-18.15 -1.25,-17.85 -0.635,-17.85 ; -0.635,-16.15 -1.25,-16.15 -1.25,-15.85 -0.635,-15.85 ; -0.635,-14.15 -1.25,-14.15 -1.25,-13.85 -0.635,-13.85 ; -0.635,-12.15 -1.25,-12.15 -1.25,-11.85 -0.635,-11.85 ; -0.635,-10.15 -1.25,-10.15 -1.25,-9.85 -0.635,-9.85 ; -0.635,-8.15 -1.25,-8.15 -1.25,-7.85 -0.635,-7.85 ; -0.635,-6.15 -1.25,-6.15 -1.25,-5.85 -0.635,-5.85 ; -0.635,-4.15 -1.25,-4.15 -1.25,-3.85 -0.635,-3.85 ; -0.635,-2.15 -1.25,-2.15 -1.25,-1.85 -0.635,-1.85 ; -0.635,-0.15 -1.25,-0.15 -1.25,0.15 -0.635,0.15 ; -0.635,1.85 -1.25,1.85 -1.25,2.15 -0.635,2.15 ; -0.635,3.85 -1.25,3.85 -1.25,4.15 -0.635,4.15 ; -0.635,5.85 -1.25,5.85 -1.25,6.15 -0.635,6.15 ; -0.635,7.85 -1.25,7.85 -1.25,8.15 -0.635,8.15 ; -0.635,9.85 -1.25,9.85 -1.25,10.15 -0.635,10.15 ; -0.635,11.85 -1.25,11.85 -1.25,12.15 -0.635,12.15 ; -0.635,13.85 -1.25,13.85 -1.25,14.15 -0.635,14.15 ; -0.635,15.85 -1.25,15.85 -1.25,16.15 -0.635,16.15 ; -0.635,17.85 -1.25,17.85 -1.25,18.15 -0.635,18.15 ; 0.635,-19.15 1.25,-19.15 1.25,-18.85 0.635,-18.85 ; 0.635,-17.15 1.25,-17.15 1.25,-16.85 0.635,-16.85 ; 0.635,-15.15 1.25,-15.15 1.25,-14.85 0.635,-14.85 ; 0.635,-13.15 1.25,-13.15 1.25,-12.85 0.635,-12.85 ; 0.635,-11.15 1.25,-11.15 1.25,-10.85 0.635,-10.85 ; 0.635,-9.15 1.25,-9.15 1.25,-8.85 0.635,-8.85 ; 0.635,-7.15 1.25,-7.15 1.25,-6.85 0.635,-6.85 ; 0.635,-5.15 1.25,-5.15 1.25,-4.85 0.635,-4.85 ; 0.635,-3.15 1.25,-3.15 1.25,-2.85 0.635,-2.85 ; 0.635,-1.15 1.25,-1.15 1.25,-0.85 0.635,-0.85 ; 0.635,0.85 1.25,0.85 1.25,1.15 0.635,1.15 ; 0.635,2.85 1.25,2.85 1.25,3.15 0.635,3.15 ; 0.635,4.85 1.25,4.85 1.25,5.15 0.635,5.15 ; 0.635,6.85 1.25,6.85 1.25,7.15 0.635,7.15 ; 0.635,8.85 1.25,8.85 1.25,9.15 0.635,9.15 ; 0.635,10.85 1.25,10.85 1.25,11.15 0.635,11.15 ; 0.635,12.85 1.25,12.85 1.25,13.15 0.635,13.15 ; 0.635,14.85 1.25,14.85 1.25,15.15 0.635,15.15 ; 0.635,16.85 1.25,16.85 1.25,17.15 0.635,17.15 ; 0.635,18.85 1.25,18.85 1.25,19.15 0.635,19.15 ; 0.635,19.15 0.635,-19.5 -0.635,-19.5 -0.635,19.5 0.285,19.5 0.635,19.15
  text "'.Designator'" at 0.84,-4.047 h1
Top Courtyard:
  lines w0.254: -2.25,-20 2.25,-20 2.25,20 -2.25,20 -2.25,-20
Top Designator:
  text ".Designator" at -7.618,-0.508 h1.52

## PinHeader_1x40_P1.00mm_Horizontal [mm]
pads (40):
  rect 0.85x0.85 hole 0.5: 1(0,0)
  round 0.85 hole 0.5: 2(0,-1) 3(0,-2) 4(0,-3) 5(0,-4) 6(0,-5) 7(0,-6) 8(0,-7) 9(0,-8) 10(0,-9) 11(0,-10) 12(0,-11) 13(0,-12) 14(0,-13) 15(0,-14) 16(0,-15) 17(0,-16) 18(0,-17) 19(0,-18) 20(0,-19) 21(0,-20) 22(0,-21) 23(0,-22) 24(0,-23) 25(0,-24) 26(0,-25) 27(0,-26) 28(0,-27) 29(0,-28) 30(0,-29) 31(0,-30) 32(0,-31) 33(0,-32) 34(0,-33) 35(0,-34) 36(0,-35) 37(0,-36) 38(0,-37) 39(0,-38) 40(0,-39)
F.SilkS:
  drawing of 165 lines, arcs and shapes, not listed
Top Assembly:
  drawing of 245 lines, arcs and shapes, not listed
  text "'.Designator'" at 1.254,-21.928 h0.6
Top Courtyard:
  lines w0.254: -1,-40 3.75,-40 3.75,1 -1,1 -1,-40
Top Designator:
  text ".Designator" at -6.243,-20.008 h1.52

## PinHeader_1x40_P1.00mm_Vertical [mm]
pads (40):
  rect 0.85x0.85 hole 0.5: 1(0,0)
  round 0.85 hole 0.5: 2(0,-1) 3(0,-2) 4(0,-3) 5(0,-4) 6(0,-5) 7(0,-6) 8(0,-7) 9(0,-8) 10(0,-9) 11(0,-10) 12(0,-11) 13(0,-12) 14(0,-13) 15(0,-14) 16(0,-15) 17(0,-16) 18(0,-17) 19(0,-18) 20(0,-19) 21(0,-20) 22(0,-21) 23(0,-22) 24(0,-23) 25(0,-24) 26(0,-25) 27(0,-26) 28(0,-27) 29(0,-28) 30(0,-29) 31(0,-30) 32(0,-31) 33(0,-32) 34(0,-33) 35(0,-34) 36(0,-35) 37(0,-36) 38(0,-37) 39(0,-38) 40(0,-39)
F.SilkS:
  lines w0.254: -0.745,0 -0.745,0.735 0,0.735 ; -0.686,-0.735 -0.745,-0.735 -0.745,-39.61 -0.41,-39.61 ; 0.41,-39.61 0.745,-39.61 0.745,-0.735 0.686,-0.735
Top Assembly:
  lines w0.254: -0.635,-39.5 0.635,-39.5 0.635,0.5 -0.318,0.5 -0.635,0.182 -0.635,-39.5
  text "'.Designator'" at 0.639,-22.576 h0.76
Top Courtyard:
  lines w0.254: -1.14,-40 1.14,-40 1.14,1 -1.14,1 -1.14,-40
Top Designator:
  text ".Designator" at -7.618,-20.008 h1.52

## PinHeader_1x40_P1.00mm_Vertical_SMD_Pin1Left [mm]
pads (40):
  rect 1.75x0.6 smd: 1(-0.875,19.5) 2(0.875,18.5) 3(-0.875,17.5) 4(0.875,16.5) 5(-0.875,15.5) 6(0.875,14.5) 7(-0.875,13.5) 8(0.875,12.5) 9(-0.875,11.5) 10(0.875,10.5) 11(-0.875,9.5) 12(0.875,8.5) 13(-0.875,7.5) 14(0.875,6.5) 15(-0.875,5.5) 16(0.875,4.5) 17(-0.875,3.5) 18(0.875,2.5) 19(-0.875,1.5) 20(0.875,0.5) 21(-0.875,-0.5) 22(0.875,-1.5) 23(-0.875,-2.5) 24(0.875,-3.5) 25(-0.875,-4.5) 26(0.875,-5.5) 27(-0.875,-6.5) 28(0.875,-7.5) 29(-0.875,-8.5) 30(0.875,-9.5) 31(-0.875,-10.5) 32(0.875,-11.5) 33(-0.875,-12.5) 34(0.875,-13.5) 35(-0.875,-14.5) 36(0.875,-15.5) 37(-0.875,-16.5) 38(0.875,-17.5) 39(-0.875,-18.5) 40(0.875,-19.5)
F.SilkS:
  lines w0.254: -1.69,20.11 -0.745,20.11 0.745,20.11 0.745,19.11 ; -0.745,-19.11 -0.745,-20.11 0.745,-20.11 ; -0.745,-17.89 -0.745,-17.11 ; -0.745,-15.89 -0.745,-15.11 ; -0.745,-13.89 -0.745,-13.11 ; -0.745,-11.89 -0.745,-11.11 ; -0.745,-9.89 -0.745,-9.11 ; -0.745,-7.89 -0.745,-7.11 ; -0.745,-5.89 -0.745,-5.11 ; -0.745,-3.89 -0.745,-3.11 ; -0.745,-1.89 -0.745,-1.11 ; -0.745,0.11 -0.745,0.89 ; -0.745,2.11 -0.745,2.89 ; -0.745,4.11 -0.745,4.89 ; -0.745,6.11 -0.745,6.89 ; -0.745,8.11 -0.745,8.89 ; -0.745,10.11 -0.745,10.89 ; -0.745,12.11 -0.745,12.89 ; -0.745,14.11 -0.745,14.89 ; -0.745,16.11 -0.745,16.89 ; -0.745,18.11 -0.745,18.89 ; 0.745,-18.89 0.745,-18.11 ; 0.745,-16.89 0.745,-16.11 ; 0.745,-14.89 0.745,-14.11 ; 0.745,-12.89 0.745,-12.11 ; 0.745,-10.89 0.745,-10.11 ; 0.745,-8.89 0.745,-8.11 ; 0.745,-6.89 0.745,-6.11 ; 0.745,-4.89 0.745,-4.11 ; 0.745,-2.89 0.745,-2.11 ; 0.745,-0.89 0.745,-0.11 ; 0.745,1.11 0.745,1.89 ; 0.745,3.11 0.745,3.89 ; 0.745,5.11 0.745,5.89 ; 0.745,7.11 0.745,7.89 ; 0.745,9.11 0.745,9.89 ; 0.745,11.11 0.745,11.89 ; 0.745,13.11 0.745,13.89 ; 0.745,15.11 0.745,15.89 ; 0.745,17.11 0.745,17.89
Top Assembly:
  lines w0.254: -0.635,-18.65 -1.25,-18.65 -1.25,-18.35 -0.635,-18.35 ; -0.635,-16.65 -1.25,-16.65 -1.25,-16.35 -0.635,-16.35 ; -0.635,-14.65 -1.25,-14.65 -1.25,-14.35 -0.635,-14.35 ; -0.635,-12.65 -1.25,-12.65 -1.25,-12.35 -0.635,-12.35 ; -0.635,-10.65 -1.25,-10.65 -1.25,-10.35 -0.635,-10.35 ; -0.635,-8.65 -1.25,-8.65 -1.25,-8.35 -0.635,-8.35 ; -0.635,-6.65 -1.25,-6.65 -1.25,-6.35 -0.635,-6.35 ; -0.635,-4.65 -1.25,-4.65 -1.25,-4.35 -0.635,-4.35 ; -0.635,-2.65 -1.25,-2.65 -1.25,-2.35 -0.635,-2.35 ; -0.635,-0.65 -1.25,-0.65 -1.25,-0.35 -0.635,-0.35 ; -0.635,1.35 -1.25,1.35 -1.25,1.65 -0.635,1.65 ; -0.635,3.35 -1.25,3.35 -1.25,3.65 -0.635,3.65 ; -0.635,5.35 -1.25,5.35 -1.25,5.65 -0.635,5.65 ; -0.635,7.35 -1.25,7.35 -1.25,7.65 -0.635,7.65 ; -0.635,9.35 -1.25,9.35 -1.25,9.65 -0.635,9.65 ; -0.635,11.35 -1.25,11.35 -1.25,11.65 -0.635,11.65 ; -0.635,13.35 -1.25,13.35 -1.25,13.65 -0.635,13.65 ; -0.635,15.35 -1.25,15.35 -1.25,15.65 -0.635,15.65 ; -0.635,17.35 -1.25,17.35 -1.25,17.65 -0.635,17.65 ; -0.635,19.35 -1.25,19.35 -1.25,19.65 -0.635,19.65 ; 0.635,-19.65 1.25,-19.65 1.25,-19.35 0.635,-19.35 ; 0.635,-17.65 1.25,-17.65 1.25,-17.35 0.635,-17.35 ; 0.635,-15.65 1.25,-15.65 1.25,-15.35 0.635,-15.35 ; 0.635,-13.65 1.25,-13.65 1.25,-13.35 0.635,-13.35 ; 0.635,-11.65 1.25,-11.65 1.25,-11.35 0.635,-11.35 ; 0.635,-9.65 1.25,-9.65 1.25,-9.35 0.635,-9.35 ; 0.635,-7.65 1.25,-7.65 1.25,-7.35 0.635,-7.35 ; 0.635,-5.65 1.25,-5.65 1.25,-5.35 0.635,-5.35 ; 0.635,-3.65 1.25,-3.65 1.25,-3.35 0.635,-3.35 ; 0.635,-1.65 1.25,-1.65 1.25,-1.35 0.635,-1.35 ; 0.635,0.35 1.25,0.35 1.25,0.65 0.635,0.65 ; 0.635,2.35 1.25,2.35 1.25,2.65 0.635,2.65 ; 0.635,4.35 1.25,4.35 1.25,4.65 0.635,4.65 ; 0.635,6.35 1.25,6.35 1.25,6.65 0.635,6.65 ; 0.635,8.35 1.25,8.35 1.25,8.65 0.635,8.65 ; 0.635,10.35 1.25,10.35 1.25,10.65 0.635,10.65 ; 0.635,12.35 1.25,12.35 1.25,12.65 0.635,12.65 ; 0.635,14.35 1.25,14.35 1.25,14.65 0.635,14.65 ; 0.635,16.35 1.25,16.35 1.25,16.65 0.635,16.65 ; 0.635,18.35 1.25,18.35 1.25,18.65 0.635,18.65 ; -0.635,19.65 -0.635,-20 0.635,-20 0.635,20 -0.285,20 -0.635,19.65
  text "'.Designator'" at 0.84,-4.047 h1
Top Courtyard:
  lines w0.254: -2.25,-20.5 2.25,-20.5 2.25,20.5 -2.25,20.5 -2.25,-20.5
Top Designator:
  text ".Designator" at -7.618,-0.508 h1.52

## PinHeader_1x40_P1.00mm_Vertical_SMD_Pin1Right [mm]
pads (40):
  rect 1.75x0.6 smd: 1(0.875,19.5) 2(-0.875,18.5) 3(0.875,17.5) 4(-0.875,16.5) 5(0.875,15.5) 6(-0.875,14.5) 7(0.875,13.5) 8(-0.875,12.5) 9(0.875,11.5) 10(-0.875,10.5) 11(0.875,9.5) 12(-0.875,8.5) 13(0.875,7.5) 14(-0.875,6.5) 15(0.875,5.5) 16(-0.875,4.5) 17(0.875,3.5) 18(-0.875,2.5) 19(0.875,1.5) 20(-0.875,0.5) 21(0.875,-0.5) 22(-0.875,-1.5) 23(0.875,-2.5) 24(-0.875,-3.5) 25(0.875,-4.5) 26(-0.875,-5.5) 27(0.875,-6.5) 28(-0.875,-7.5) 29(0.875,-8.5) 30(-0.875,-9.5) 31(0.875,-10.5) 32(-0.875,-11.5) 33(0.875,-12.5) 34(-0.875,-13.5) 35(0.875,-14.5) 36(-0.875,-15.5) 37(0.875,-16.5) 38(-0.875,-17.5) 39(0.875,-18.5) 40(-0.875,-19.5)
F.SilkS:
  lines w0.254: -0.745,-20.11 0.745,-20.11 0.745,-19.11 ; -0.745,-18.89 -0.745,-18.11 ; -0.745,-16.89 -0.745,-16.11 ; -0.745,-14.89 -0.745,-14.11 ; -0.745,-12.89 -0.745,-12.11 ; -0.745,-10.89 -0.745,-10.11 ; -0.745,-8.89 -0.745,-8.11 ; -0.745,-6.89 -0.745,-6.11 ; -0.745,-4.89 -0.745,-4.11 ; -0.745,-2.89 -0.745,-2.11 ; -0.745,-0.89 -0.745,-0.11 ; -0.745,1.11 -0.745,1.89 ; -0.745,3.11 -0.745,3.89 ; -0.745,5.11 -0.745,5.89 ; -0.745,7.11 -0.745,7.89 ; -0.745,9.11 -0.745,9.89 ; -0.745,11.11 -0.745,11.89 ; -0.745,13.11 -0.745,13.89 ; -0.745,15.11 -0.745,15.89 ; -0.745,17.11 -0.745,17.89 ; -0.745,19.89 -0.745,19.11 -0.745,20.11 0.745,20.11 1.69,20.11 ; 0.745,-17.89 0.745,-17.11 ; 0.745,-15.89 0.745,-15.11 ; 0.745,-13.89 0.745,-13.11 ; 0.745,-11.89 0.745,-11.11 ; 0.745,-9.89 0.745,-9.11 ; 0.745,-7.89 0.745,-7.11 ; 0.745,-5.89 0.745,-5.11 ; 0.745,-3.89 0.745,-3.11 ; 0.745,-1.89 0.745,-1.11 ; 0.745,0.11 0.745,0.89 ; 0.745,2.11 0.745,2.89 ; 0.745,4.11 0.745,4.89 ; 0.745,6.11 0.745,6.89 ; 0.745,8.11 0.745,8.89 ; 0.745,10.11 0.745,10.89 ; 0.745,12.11 0.745,12.89 ; 0.745,14.11 0.745,14.89 ; 0.745,16.11 0.745,16.89 ; 0.745,18.11 0.745,18.89
Top Assembly:
  lines w0.254: -0.635,-19.65 -1.25,-19.65 -1.25,-19.35 -0.635,-19.35 ; -0.635,-17.65 -1.25,-17.65 -1.25,-17.35 -0.635,-17.35 ; -0.635,-15.65 -1.25,-15.65 -1.25,-15.35 -0.635,-15.35 ; -0.635,-13.65 -1.25,-13.65 -1.25,-13.35 -0.635,-13.35 ; -0.635,-11.65 -1.25,-11.65 -1.25,-11.35 -0.635,-11.35 ; -0.635,-9.65 -1.25,-9.65 -1.25,-9.35 -0.635,-9.35 ; -0.635,-7.65 -1.25,-7.65 -1.25,-7.35 -0.635,-7.35 ; -0.635,-5.65 -1.25,-5.65 -1.25,-5.35 -0.635,-5.35 ; -0.635,-3.65 -1.25,-3.65 -1.25,-3.35 -0.635,-3.35 ; -0.635,-1.65 -1.25,-1.65 -1.25,-1.35 -0.635,-1.35 ; -0.635,0.35 -1.25,0.35 -1.25,0.65 -0.635,0.65 ; -0.635,2.35 -1.25,2.35 -1.25,2.65 -0.635,2.65 ; -0.635,4.35 -1.25,4.35 -1.25,4.65 -0.635,4.65 ; -0.635,6.35 -1.25,6.35 -1.25,6.65 -0.635,6.65 ; -0.635,8.35 -1.25,8.35 -1.25,8.65 -0.635,8.65 ; -0.635,10.35 -1.25,10.35 -1.25,10.65 -0.635,10.65 ; -0.635,12.35 -1.25,12.35 -1.25,12.65 -0.635,12.65 ; -0.635,14.35 -1.25,14.35 -1.25,14.65 -0.635,14.65 ; -0.635,16.35 -1.25,16.35 -1.25,16.65 -0.635,16.65 ; -0.635,18.35 -1.25,18.35 -1.25,18.65 -0.635,18.65 ; 0.635,-18.65 1.25,-18.65 1.25,-18.35 0.635,-18.35 ; 0.635,-16.65 1.25,-16.65 1.25,-16.35 0.635,-16.35 ; 0.635,-14.65 1.25,-14.65 1.25,-14.35 0.635,-14.35 ; 0.635,-12.65 1.25,-12.65 1.25,-12.35 0.635,-12.35 ; 0.635,-10.65 1.25,-10.65 1.25,-10.35 0.635,-10.35 ; 0.635,-8.65 1.25,-8.65 1.25,-8.35 0.635,-8.35 ; 0.635,-6.65 1.25,-6.65 1.25,-6.35 0.635,-6.35 ; 0.635,-4.65 1.25,-4.65 1.25,-4.35 0.635,-4.35 ; 0.635,-2.65 1.25,-2.65 1.25,-2.35 0.635,-2.35 ; 0.635,-0.65 1.25,-0.65 1.25,-0.35 0.635,-0.35 ; 0.635,1.35 1.25,1.35 1.25,1.65 0.635,1.65 ; 0.635,3.35 1.25,3.35 1.25,3.65 0.635,3.65 ; 0.635,5.35 1.25,5.35 1.25,5.65 0.635,5.65 ; 0.635,7.35 1.25,7.35 1.25,7.65 0.635,7.65 ; 0.635,9.35 1.25,9.35 1.25,9.65 0.635,9.65 ; 0.635,11.35 1.25,11.35 1.25,11.65 0.635,11.65 ; 0.635,13.35 1.25,13.35 1.25,13.65 0.635,13.65 ; 0.635,15.35 1.25,15.35 1.25,15.65 0.635,15.65 ; 0.635,17.35 1.25,17.35 1.25,17.65 0.635,17.65 ; 0.635,19.35 1.25,19.35 1.25,19.65 0.635,19.65 ; 0.635,19.65 0.635,-20 -0.635,-20 -0.635,20 0.285,20 0.635,19.65
  text "'.Designator'" at 0.84,-4.047 h1
Top Courtyard:
  lines w0.254: -2.25,-20.5 2.25,-20.5 2.25,20.5 -2.25,20.5 -2.25,-20.5
Top Designator:
  text ".Designator" at -7.618,-0.508 h1.52

## PinHeader_2x01_P1.00mm_Horizontal [mm]
pads (2):
  rect 0.85x0.85 hole 0.5: 1(0,0)
  round 0.85 hole 0.5: 2(1,0)
F.SilkS:
  lines w0.254: -0.735,0 -0.735,0.735 0,0.735 ; 1.687,-0.26 1.79,-0.26 ; 1.687,0.26 1.79,0.26 ; 1.79,-0.61 3.21,-0.61 3.21,0.61 1.79,0.61 1.79,-0.61 ; 3.21,-0.26 5.21,-0.26 5.21,0.26 3.21,0.26 3.21,-0.26
Top Assembly:
  lines w0.254: 1.9,-0.15 -0.15,-0.15 -0.15,0.15 1.9,0.15 ; 3.1,-0.15 5.1,-0.15 5.1,0.15 3.1,0.15 ; 1.9,-0.5 3.1,-0.5 3.1,0.5 2.2,0.5 1.9,0.2 1.9,-0.5
  text "'.Designator'" at 3.105,-2.914 h0.72
Top Courtyard:
  lines w0.254: -1,-1 5.6,-1 5.6,1 -1,1 -1,-1
Top Designator:
  text ".Designator" at -5.318,-0.616 h1.52

## PinHeader_2x01_P1.00mm_Vertical [mm]
pads (2):
  rect 0.85x0.85 hole 0.5: 1(0,0)
  round 0.85 hole 0.5: 2(1,0)
F.SilkS:
  lines w0.254: -0.76,-0.61 -0.76,-0.735 ; -0.76,0 -0.76,0.735 0,0.735 ; -0.686,-0.735 -0.76,-0.735 ; 1.41,0.61 1.76,0.61 1.76,-0.61 ; 1.76,-0.735 -0.76,-0.735
Top Assembly:
  lines w0.254: -0.65,-0.5 1.65,-0.5 1.65,0.5 -0.075,0.5 -0.65,-0.075 -0.65,-0.5
  text "'.Designator'" at 1.34,-4.047 h1
Top Courtyard:
  lines w0.254: -1.15,-1 2.15,-1 2.15,1 -1.15,1 -1.15,-1
Top Designator:
  text ".Designator" at -7.118,-0.658 h1.52